# EAGLE library part NRF8001 (library firefly)
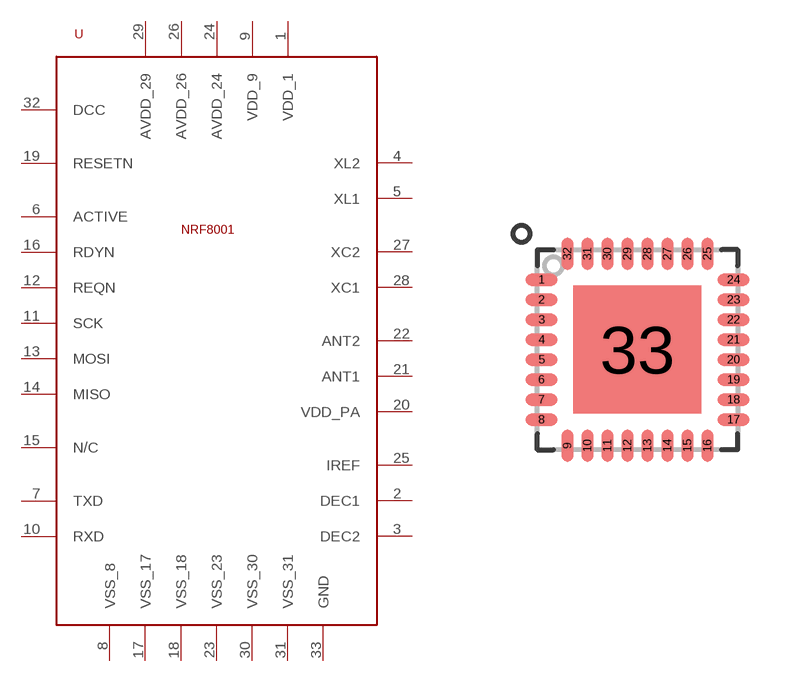
[diagram p6: symbol with the pads of QFN-32; footprint QFN-32]

Designator prefix -

## NRF8001  [QFN-32]
1  VDD_1
2  DEC1
3  DEC2
4  XL2
5  XL1
6  ACTIVE
7  TXD
8  VSS_8
9  VDD_9
10  RXD
11  SCK
12  REQN
13  MOSI
14  MISO
15  N/C
16  RDYN
17  VSS_17
18  VSS_18
19  RESETN
20  VDD_PA
21  ANT1
22  ANT2
23  VSS_23
24  AVDD_24
25  IREF
26  AVDD_26
27  XC2
28  XC1
29  AVDD_29
30  VSS_30
31  VSS_31
32  DCC
33  GND

## Footprint QFN-32 (pad centres in mm)
smd 0.8 x 0.3: 1 -2.4,1.75; 2 -2.4,1.25; 3 -2.4,0.75; 4 -2.4,0.25; 5 -2.4,-0.25; 6 -2.4,-0.75; 7 -2.4,-1.25; 8 -2.4,-1.75; 17 2.4,-1.75; 18 2.4,-1.25; 19 2.4,-0.75; 20 2.4,-0.25; 21 2.4,0.25; 22 2.4,0.75; 23 2.4,1.25; 24 2.4,1.75
smd 0.3 x 0.8: 9 -1.75,-2.4; 10 -1.25,-2.4; 11 -0.75,-2.4; 12 -0.25,-2.4; 13 0.25,-2.4; 14 0.75,-2.4; 15 1.25,-2.4; 16 1.75,-2.4; 25 1.75,2.4; 26 1.25,2.4; 27 0.75,2.4; 28 0.25,2.4; 29 -0.25,2.4; 30 -0.75,2.4; 31 -1.25,2.4; 32 -1.75,2.4
smd 3.2 x 3.2: 33 0,0